# Altium schematic symbol library Sensor_Optical.SchLib: 75 symbols
Pins are listed as number, name and electrical type; pins without a type are passive.

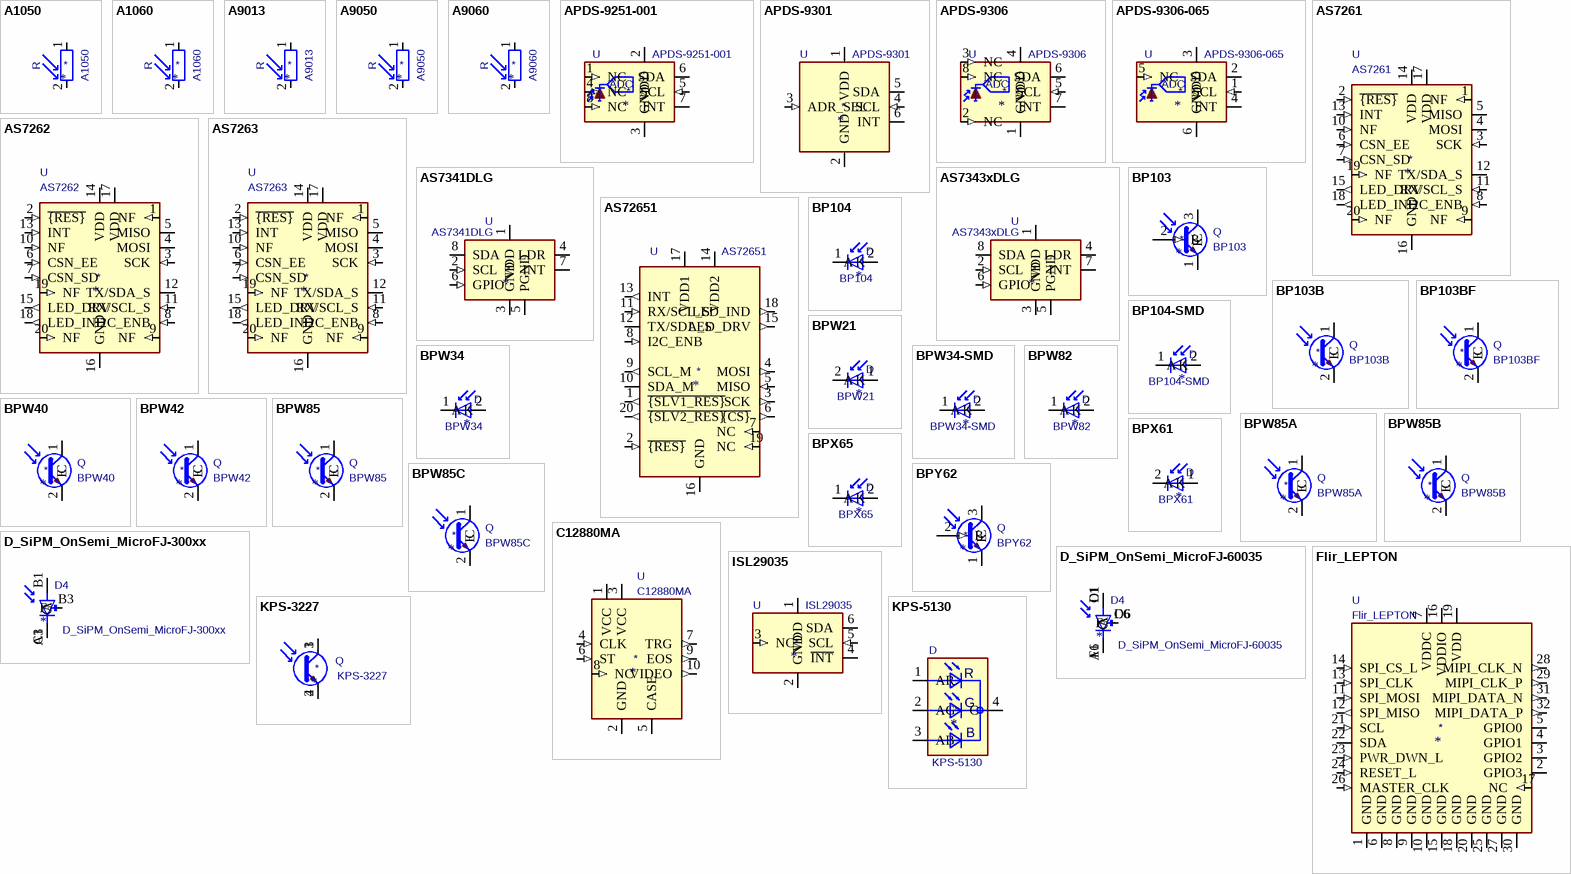
[diagram p0: symbols A1050 to KPS-5130]

## A1050
designator *  value A1050  Reference: R
light dependent resistor; ki_keywords: light dependent photo resistor LDR; ki_fp_filters: R*LDR*D6.4*P3.4*; Footprint: OptoDevice:R_LDR_D6.4mm_P3.4mm_Vertical; Datasheet: http://cdn-reichelt.de/documents/datenblatt/A500/A106012.pdf; Description_: light dependent resistor
pins: 1, 2

## A1060
designator *  value A1060  Reference: R
light dependent resistor; ki_keywords: light dependent photo resistor LDR; ki_fp_filters: R*LDR*D6.4*P3.4*; Footprint: OptoDevice:R_LDR_D6.4mm_P3.4mm_Vertical; Datasheet: http://cdn-reichelt.de/documents/datenblatt/A500/A106012.pdf; Description_: light dependent resistor
pins: 1, 2

## A9013
designator *  value A9013  Reference: R
light dependent resistor; ki_keywords: light dependent photo resistor LDR; ki_fp_filters: R*LDR*5.0x4.1mm*P3mm*; Footprint: OptoDevice:R_LDR_5.0x4.1mm_P3mm_Vertical; Datasheet: http://www.produktinfo.conrad.com/datenblaetter/125000-149999/145475-da-01-en-FOTOWIDERSTAND_A_9060_A_9013.pdf; Description_: light dependent resistor
pins: 1, 2

## A9050
designator *  value A9050  Reference: R
light dependent resistor; ki_keywords: light dependent photo resistor LDR; ki_fp_filters: R*LDR*5.0x4.1mm*P3mm*; Footprint: OptoDevice:R_LDR_5.0x4.1mm_P3mm_Vertical; Datasheet: http://cdn-reichelt.de/documents/datenblatt/A500/A90xxxx%23PE.pdf; Description_: light dependent resistor
pins: 1, 2

## A9060
designator *  value A9060  Reference: R
light dependent resistor; ki_keywords: light dependent photo resistor LDR; ki_fp_filters: R*LDR*5.0x4.1mm*P3mm*; Footprint: OptoDevice:R_LDR_5.0x4.1mm_P3mm_Vertical; Datasheet: http://cdn-reichelt.de/documents/datenblatt/A500/A90xxxx%23PE.pdf; Description_: light dependent resistor
pins: 1, 2

## APDS-9251-001
designator *  value APDS-9251-001  Reference: U
Digital RGB, IR, and Ambient Light Sensor, 1.7-3.6V, LGA-8; ki_keywords: opto ambient light sensor; ki_fp_filters: Broadcom*LGA*2x2mm*P0.5mm*; Footprint: OptoDevice:Broadcom_LGA-8_2x2mm_P0.5mm; Datasheet: https://docs.broadcom.com/doc/APDS-9251-001-DS; Description_: Digital RGB, IR, and Ambient Light Sensor, 1.7-3.6V, LGA-8
pins: 1 NC (in), 2 VDD (power), 3 GND (power), 4 NC (in), 5 SCL (in), 6 SDA (io), 7 INT (oc), 8 NC (in)
text: ADC

## APDS-9301
designator *  value APDS-9301  Reference: U
ambient light sensor, i2c interface, 2.7-3.6V; ki_keywords: ambient light sensor i2c; ki_fp_filters: Broadcom*APDS*9301*; Footprint: OptoDevice:Broadcom_APDS-9301; Datasheet: https://docs.broadcom.com/docs/AV02-2315EN; Description_: ambient light sensor, i2c interface, 2.7-3.6V
pins: 1 VDD (power), 2 GND (power), 3 ADR_SEL (in), 4 SCL (in), 5 SDA (io), 6 INT (oc)

## APDS-9306
designator *  value APDS-9306  Reference: U
Ambient Light Sensor, I2C interface, 1.7-3.6V, LGA-8; ki_keywords: opto ambient light sensor; ki_fp_filters: Broadcom*LGA*2x2mm*P0.53mm*; Footprint: OptoDevice:Broadcom_LGA-8_2x2mm_P0.53mm; Datasheet: https://docs.broadcom.com/docs/AV02-4755EN; Description_: Ambient Light Sensor, I2C interface, 1.7-3.6V, LGA-8
pins: 1 GND (power), 2 NC (in), 3 NC (in), 4 VDD (power), 5 SCL (in), 6 SDA (io), 7 INT (oc), 8 NC (in)
text: ADC

## APDS-9306-065
designator *  value APDS-9306-065  Reference: U
Ambient Light Sensor, I2C interface, 1.7-3.6V, DFN-6; ki_keywords: opto ambient light sensor; ki_fp_filters: Broadcom*DFN*2x2mm*P0.65mm*; Footprint: OptoDevice:Broadcom_DFN-6_2x2mm_P0.65mm; Datasheet: https://docs.broadcom.com/docs/AV02-4755EN; Description_: Ambient Light Sensor, I2C interface, 1.7-3.6V, DFN-6
pins: 1 SCL (in), 2 SDA (io), 3 VDD (power), 4 INT (oc), 5 NC (in), 6 GND (power)
text: ADC

## AS7261
designator *  value AS7261  Reference: U
Spectral Sensing Engine, 6-Channel XYZ Spectral_ID; ki_keywords: 6-Channel XYZ Spectral_ID Device Electronic Shutter Smart Interface i2c uart; ki_fp_filters: AMS?LGA*4.7x4.5mm*P0.65mm*; Footprint: Package_LGA:AMS_LGA-20_4.7x4.5mm_P0.65mm; Datasheet: https://ams.com/documents/20143/36005/AS7261_DS000493_1-00.pdf/0e7d1f12-702e-d061-b07a-67b0b6316800; Description_: Spectral Sensing Engine, 6-Channel XYZ Spectral_ID
pins: 1 NF (in), 2 ~{{RES}} (in), 3 SCK (in), 4 MOSI (io), 5 MISO (io), 6 CSN_EE (in), 7 CSN_SD (in), 8 I2C_ENB (in), 9 NF (in), 10 NF (in), 11 RX/SCL_S (in), 12 TX/SDA_S (io), 13 INT (in), 14 VDD (power), 15 LED_DRV (out), 16 GND (power), 17 VDD (power), 18 LED_IND (out), 19 NF (in), 20 NF (in)

## AS7262
designator *  value AS7262  Reference: U
Spectral Sensing Engine, 6-Channel Visible Spectral_ID; ki_keywords: 6-Channel Visible Spectral_ID Device Electronic Shutter Smart Interface i2c uart; ki_fp_filters: AMS?LGA*4.7x4.5mm*P0.65mm*; Footprint: Package_LGA:AMS_LGA-20_4.7x4.5mm_P0.65mm; Datasheet: https://ams.com/documents/20143/36005/AS7262_DS000486_5-00.pdf; Description_: Spectral Sensing Engine, 6-Channel Visible Spectral_ID
pins: 1 NF (in), 2 ~{{RES}} (in), 3 SCK (in), 4 MOSI (io), 5 MISO (io), 6 CSN_EE (in), 7 CSN_SD (in), 8 I2C_ENB (in), 9 NF (in), 10 NF (in), 11 RX/SCL_S (in), 12 TX/SDA_S (io), 13 INT (in), 14 VDD (power), 15 LED_DRV (out), 16 GND (power), 17 VDD (power), 18 LED_IND (out), 19 NF (in), 20 NF (in)

## AS7263
designator *  value AS7263  Reference: U
Spectral Sensing Engine, 6-Channel NIR Spectral_ID; ki_keywords: 6-Channel NIR Spectral_ID Device Electronic Shutter Smart Interface i2c uart; ki_fp_filters: AMS?LGA*4.7x4.5mm*P0.65mm*; Footprint: Package_LGA:AMS_LGA-20_4.7x4.5mm_P0.65mm; Datasheet: https://ams.com/documents/20143/36005/AS7263_DS000476_4-00.pdf; Description_: Spectral Sensing Engine, 6-Channel NIR Spectral_ID
pins: 1 NF (in), 2 ~{{RES}} (in), 3 SCK (in), 4 MOSI (io), 5 MISO (io), 6 CSN_EE (in), 7 CSN_SD (in), 8 I2C_ENB (in), 9 NF (in), 10 NF (in), 11 RX/SCL_S (in), 12 TX/SDA_S (io), 13 INT (in), 14 VDD (power), 15 LED_DRV (out), 16 GND (power), 17 VDD (power), 18 LED_IND (out), 19 NF (in), 20 NF (in)

## AS7341DLG
designator *  value AS7341DLG  Reference: U
11-Channel Multi-Spectral Digital Sensor, OLGA-8; ki_keywords: 11-Channel Spectral i2c optical color; ki_fp_filters: AMS*OLGA*2x3.1mm*P0.8mm*; Footprint: Package_LGA:AMS_OLGA-8_2x3.1mm_P0.8mm; Datasheet: https://ams.com/documents/20143/36005/AS7341_DS000504_3-00.pdf; Description_: 11-Channel Multi-Spectral Digital Sensor, OLGA-8
pins: 1 VDD (power), 2 SCL (in), 3 GND (power), 4 LDR, 5 PGND (power), 6 GPIO (in), 7 INT (oc), 8 SDA (io)

## AS7343xDLG
designator *  value AS7343xDLG  Reference: U
14-Channel Multi-Spectral Digital Sensor including XYZ, Clear and Flicker Detection, 380 - 1000 nm,OLGA-8; ki_keywords: 14-Channel Spectral i2c optical color; ki_fp_filters: AMS*OLGA*2x3.1mm*P0.8mm*; Footprint: Package_LGA:AMS_OLGA-8_2x3.1mm_P0.8mm; Datasheet: https://ams.com/documents/20143/6705498/AS7343_DS001046_6_00.pdf; Description_: 14-Channel Multi-Spectral Digital Sensor including XYZ, Clear and Flicker Detection, 380 - 1000 nm,OLGA-8
pins: 1 VDD (power), 2 SCL (in), 3 GND (power), 4 LDR, 5 PGND (power), 6 GPIO (in), 7 INT (oc), 8 SDA (io)

## AS72651
designator *  value AS72651  Reference: U
Smart 18-Channel VIS+NIR Spectral_ID Sensor with Electronic Shutter, LGA-20; ki_keywords: Smart Spectral Sensor; ki_fp_filters: AMS?LGA*4.7x4.5mm*P0.65mm*; Footprint: Package_LGA:AMS_LGA-20_4.7x4.5mm_P0.65mm; Datasheet: https://ams.com/documents/20143/36005/AS7265x_DS000612_1-00.pdf/08051c8a-a7f6-6231-7993-2d3fe0bf38b8; Description_: Smart 18-Channel VIS+NIR Spectral_ID Sensor with Electronic Shutter, LGA-20
pins: 1 ~{{SLV1_RES}} (out), 2 ~{{RES}} (in), 3 SCK (out), 4 MOSI (out), 5 MISO (in), 6 ~{{CS}} (out), 7 NC (in), 8 I2C_ENB (in), 9 SCL_M (out), 10 SDA_M (io), 11 RX/SCL_S (in), 12 TX/SDA_S (io), 13 INT (out), 14 VDD2 (power), 15 LED_DRV (out), 16 GND (power), 17 VDD1 (power), 18 LED_IND (out), 19 NC (in), 20 ~{{SLV2_RES}} (out)

## BP103
designator *  value BP103  Reference: Q
NPN Phototransistor; ki_fp_filters: TO?18*Lens*; Footprint: Package_TO_SOT_THT:TO-18-3_Lens; Datasheet: http://www.osram-os.com/Graphics/XPic3/00101777_0.pdf/BP; Description_: NPN Phototransistor; ki_keywords: npn phototransistor
pins: 1 E, 2 B (in), 3 C

## BP103B
designator *  value BP103B  Reference: Q
NPN phototransistor; ki_fp_filters: LED*D5.0mm*Clear*; Footprint: LED_THT:LED_D5.0mm_Clear; Datasheet: http://www.b-kainka.de/Daten/Sensor/bp103bf.pdf; Description_: NPN phototransistor; ki_keywords: NPN phototransistor
pins: 1 C, 2 E

## BP103BF
designator *  value BP103BF  Reference: Q
NPN phototransistor with daylight filter; ki_keywords: IR NPN phototransistor; ki_fp_filters: LED*D5.0mm*Clear*; Footprint: LED_THT:LED_D5.0mm_Clear; Datasheet: http://www.b-kainka.de/Daten/Sensor/bp103bf.pdf; Description_: NPN phototransistor with daylight filter
pins: 1 C, 2 E

## BP104
designator *  value BP104  Reference: D
Silicon PIN Photodiode; ki_keywords: opto PIN photodiode; ki_fp_filters: Osram*DIL2*4.3x4.65mm*P5.08*; Footprint: OptoDevice:Osram_DIL2_4.3x4.65mm_P5.08mm; Datasheet: http://www.vishay.com/docs/81500/81500.pdf; Description_: Silicon PIN Photodiode
pins: 1 K, 2 A

## BP104-SMD
designator *  value BP104-SMD  Reference: D
Silicon PIN Photodiode,  Area 2.2x2.2mm; ki_keywords: opto photodiode; ki_fp_filters: Osram*BP104*; Footprint: OptoDevice:Osram_BP104-SMD; Datasheet: https://dammedia.osram.info/media/resource/hires/osram-dam-5989350/BP%20104%20FAS_EN.pdf; Description_: Silicon PIN Photodiode,  Area 2.2x2.2mm
pins: 1 K, 2 A

## BPW21
designator *  value BPW21  Reference: D
Silicon Photodiode for the visible spectral range, TO-5 package; ki_keywords: opto photodiode; ki_fp_filters: TO?5*Window*; Footprint: Package_TO_SOT_THT:TO-5-2_Window; Datasheet: http://techwww.in.tu-clausthal.de/site/Dokumentation/Dioden/Fotodioden/BPW21-Fotodiode.pdf; Description_: Silicon Photodiode for the visible spectral range, TO-5 package
pins: 1 A, 2 K

## BPW34
designator *  value BPW34  Reference: D
Silicon PIN Photodiode; ki_keywords: opto PIN photodiode; ki_fp_filters: Osram*DIL2*4.3x4.65mm*P5.08*; Footprint: OptoDevice:Osram_DIL2_4.3x4.65mm_P5.08mm; Datasheet: http://www.vishay.com/docs/81521/bpw34.pdf; Description_: Silicon PIN Photodiode
pins: 1 K, 2 A

## BPW34-SMD
designator *  value BPW34-SMD  Reference: D
Silicon PIN Photodiode, Area 2.65x2.65mm; ki_keywords: opto photodiode; ki_fp_filters: Osram*BPW34S*; Footprint: OptoDevice:Osram_BPW34S-SMD; Datasheet: https://dammedia.osram.info/media/resource/hires/osram-dam-5488319/BPW%2034%20S_EN.pdf; Description_: Silicon PIN Photodiode, Area 2.65x2.65mm
pins: 1 K, 2 A

## BPW40
designator *  value BPW40  Reference: Q
Phototransistor NPN; ki_keywords: npn phototransistor; ki_fp_filters: LED*D5.0mm*Clear*; Footprint: LED_THT:LED_D5.0mm_Clear; Datasheet: https://www.rcscomponents.kiev.ua/datasheets/bpw40.pdf; Description_: Phototransistor NPN
pins: 1 C, 2 E

## BPW42
designator *  value BPW42  Reference: Q
NPN phototransistor; ki_keywords: NPN phototransistor opto; ki_fp_filters: LED*3.0mm*Clear*; Footprint: LED_THT:LED_D3.0mm_Clear; Datasheet: http://www.ges.cz/sheets/b/bpw42.pdf; Description_: NPN phototransistor
pins: 1 C, 2 E

## BPW82
designator *  value BPW82  Reference: D
Silicon PIN Photodiode with Daylight Blocking Filter; ki_keywords: opto photo diode; ki_fp_filters: Osram*BPW82*; Footprint: OptoDevice:Osram_BPW82; Datasheet: http://www.vishay.com/docs/81529/bpw82.pdf; Description_: Silicon PIN Photodiode with Daylight Blocking Filter
pins: 1 K, 2 A

## BPW85
designator *  value BPW85  Reference: Q
Silicon NPN Phototransistor, Ica = 0.8-8mA, T-1; ki_fp_filters: LED*3.0mm*Clear*; Footprint: LED_THT:LED_D3.0mm_Clear; Datasheet: https://www.vishay.com/docs/81531/bpw85a.pdf; Description_: Silicon NPN Phototransistor, Ica = 0.8-8mA, T-1; ki_keywords: npn phototransistor
pins: 1 C, 2 E

## BPW85A
designator *  value BPW85A  Reference: Q
Silicon NPN Phototransistor, Ica = 0.8-2.5mA, T-1; ki_fp_filters: LED*3.0mm*Clear*; Footprint: LED_THT:LED_D3.0mm_Clear; Datasheet: https://www.vishay.com/docs/81531/bpw85a.pdf; Description_: Silicon NPN Phototransistor, Ica = 0.8-2.5mA, T-1; ki_keywords: npn phototransistor
pins: 1 C, 2 E

## BPW85B
designator *  value BPW85B  Reference: Q
Silicon NPN Phototransistor, Ica = 1.5-4mA, T-1; ki_fp_filters: LED*3.0mm*Clear*; Footprint: LED_THT:LED_D3.0mm_Clear; Datasheet: https://www.vishay.com/docs/81531/bpw85a.pdf; Description_: Silicon NPN Phototransistor, Ica = 1.5-4mA, T-1; ki_keywords: npn phototransistor
pins: 1 C, 2 E

## BPW85C
designator *  value BPW85C  Reference: Q
Silicon NPN Phototransistor, Ica = 3-8mA, T-1; ki_fp_filters: LED*3.0mm*Clear*; Footprint: LED_THT:LED_D3.0mm_Clear; Datasheet: https://www.vishay.com/docs/81531/bpw85a.pdf; Description_: Silicon NPN Phototransistor, Ica = 3-8mA, T-1; ki_keywords: npn phototransistor
pins: 1 C, 2 E

## BPX61
designator *  value BPX61  Reference: D
Silicon Photodiode for the visible spectral range; ki_keywords: photodiode opto; ki_fp_filters: TO?5*Window*; Footprint: Package_TO_SOT_THT:TO-5-2_Window; Datasheet: http://www.osram-os.com/Graphics/XPic3/00101650_0.pdf; Description_: Silicon Photodiode for the visible spectral range
pins: 1 A, 2 K

## BPX65
designator *  value BPX65  Reference: D
Silicon PIN Photodiode, TO-18 package; ki_keywords: opto PIN photo diode; ki_fp_filters: TO?18*Lens*; Footprint: Package_TO_SOT_THT:TO-18-2_Lens; Datasheet: http://www.osram-os.com/Graphics/XPic1/00181579_0.pdf/BPX%2065,%20Lead%20(Pb)%20Free%20Product%20-%20RoHS%20Compliant.pdf; Description_: Silicon PIN Photodiode, TO-18 package
pins: 1 K, 2 A

## BPY62
designator *  value BPY62  Reference: Q
NPN Phototransistor; ki_keywords: NPN Phototransistor opto; ki_fp_filters: TO?18*Lens*; Footprint: Package_TO_SOT_THT:TO-18-3_Lens; Datasheet: http://www.osram-os.com/Graphics/XPic9/00208595_0.pdf; Description_: NPN Phototransistor
pins: 1 E, 2 B (in), 3 C

## C12880MA
designator *  value C12880MA  Reference: U
Micro spectrometer 340 to 850nm resolution 15nm; ki_fp_filters: Hamamatsu*C12880*; Footprint: OptoDevice:Hamamatsu_C12880; Datasheet: http://www.hamamatsu.com/resources/pdf/ssd/c12880ma_kacc1226e.pdf; Description_: Micro spectrometer 340 to 850nm resolution 15nm; ki_keywords: spectrometer
pins: 1 VCC (power), 2 GND (power), 3 VCC (power), 4 CLK (in), 5 CASE, 6 ST (in), 7 TRG (out), 8 NC (in), 9 EOS (out), 10 VIDEO (out)

## D_SiPM_OnSemi_MicroFJ-300xx
designator *  value D_SiPM_OnSemi_MicroFJ-300xx  Reference: D4
SiPM, OnSemi J-Series 3x3mm with fast output, 20/35um microcell size, 24.2..24.7Vbr, ODCSP-8; ki_keywords: SiPM MPPC SPAD photon counting; ki_fp_filters: *BGA*3.16x3.16mm*Layout3x3*P1.26mm*; Footprint: Package_CSP:OnSemi_ODCSP8_BGA-8_3.16x3.16mm_Layout3x3_P1.26mm; Datasheet: https://www.onsemi.com/pdf/datasheet/microj-series-d.pdf; Description_: SiPM, OnSemi J-Series 3x3mm with fast output, 20/35um microcell size, 24.2..24.7Vbr, ODCSP-8
pins: A1 C, B1 A, B3 F, C3 C

## D_SiPM_OnSemi_MicroFJ-60035
designator *  value D_SiPM_OnSemi_MicroFJ-60035  Reference: D4
SiPM, OnSemi J-Series 6x6mm with fast output, 35um microcell size, 24.1..24.7Vbr, ODCSP36; ki_keywords: SiPM MPPC SPAD photon counting; ki_fp_filters: *BGA*6.13x6.13mm*Layout6x6*P1.0mm*; Footprint: Package_CSP:OnSemi_ODCSP36_BGA-36_6.13x6.13mm_Layout6x6_P1.0mm; Datasheet: https://www.onsemi.com/pdf/datasheet/microj-series-d.pdf; Description_: SiPM, OnSemi J-Series 6x6mm with fast output, 35um microcell size, 24.1..24.7Vbr, ODCSP36
pins: A1 C, C1 A, C6 F, D1 A, D6 F, F6 C

## Flir_LEPTON
designator *  value Flir_LEPTON  Reference: U
LWIR camera 8 to 14um 80x60 pixel; ki_fp_filters: *105028*1001* *105028*2011*; Datasheet: https://cdn.sparkfun.com/datasheets/Sensors/Infrared/FLIR_Lepton_Data_Brief.pdf; Description_: LWIR camera 8 to 14um 80x60 pixel; ki_keywords: LWIR camera
pins: 1 GND (power), 2 GPIO3 (io), 3 GPIO2 (io), 4 GPIO1 (io), 5 GPIO0 (io), 6 GND (power), 7 VDDC (power), 8 GND (power), 9 GND (power), 10 GND (power), 11 SPI_MOSI (in), 12 SPI_MISO (out), 13 SPI_CLK (in), 14 SPI_CS_L (in), 15 GND (power), 16 VDDIO (power), 17 NC (in), 18 GND (power), 19 VDD (power), 20 GND (power), 21 SCL (in), 22 SDA (io), 23 PWR_DWN_L (in), 24 RESET_L (in), 25 GND (power), 26 MASTER_CLK (in), 27 GND (power), 28 MIPI_CLK_N (out), 29 MIPI_CLK_P (out), 30 GND (power), 31 MIPI_DATA_N (out), 32 MIPI_DATA_P (out)

## ISL29035
designator *  value ISL29035  Reference: U
ambient light sensor, i2c interface, 2.25-3.63V, DFN-6; ki_keywords: ambient light sensor i2c; ki_fp_filters: Renesas*DFN*1.5x1.6mm*P0.5mm*; Footprint: OptoDevice:Renesas_DFN-6_1.5x1.6mm_P0.5mm; Datasheet: https://www.renesas.com/us/en/document/dst/isl29035-datasheet; Description_: ambient light sensor, i2c interface, 2.25-3.63V, DFN-6
pins: 1 VDD (power), 2 GND (power), 3 NC (in), 4 ~{INT} (oc), 5 SCL (in), 6 SDA (io)

## KPS-3227
designator *  value KPS-3227  Reference: Q
Ambient light NPN phototransistor, KPS-3227; ki_keywords: Kingbright npn phototransistor ambient light photo sensor; ki_fp_filters: Kingbright*KPS?3227*; Footprint: OptoDevice:Kingbright_KPS-3227; Datasheet: https://www.kingbright.com/attachments/file/psearch/000/00/00/KPS-3227SP1C(Ver.16).pdf; Description_: Ambient light NPN phototransistor, KPS-3227
pins: 1, 2, 3, 4

## KPS-5130
designator *  value KPS-5130  Reference: D
RGB Colour Sensor, KPS-5130; ki_keywords: opto photodiode RGB colour sensor; ki_fp_filters: Kingbright*KPS?5130*; Footprint: OptoDevice:Kingbright_KPS-5130; Datasheet: https://www.kingbright.com/attachments/file/psearch/000/00/20160808bak/KPS-5130PD7C(Ver.13).pdf; Description_: RGB Colour Sensor, KPS-5130
pins: 1 AR, 2 AG, 3 AB, 4 C
text: R; G; B

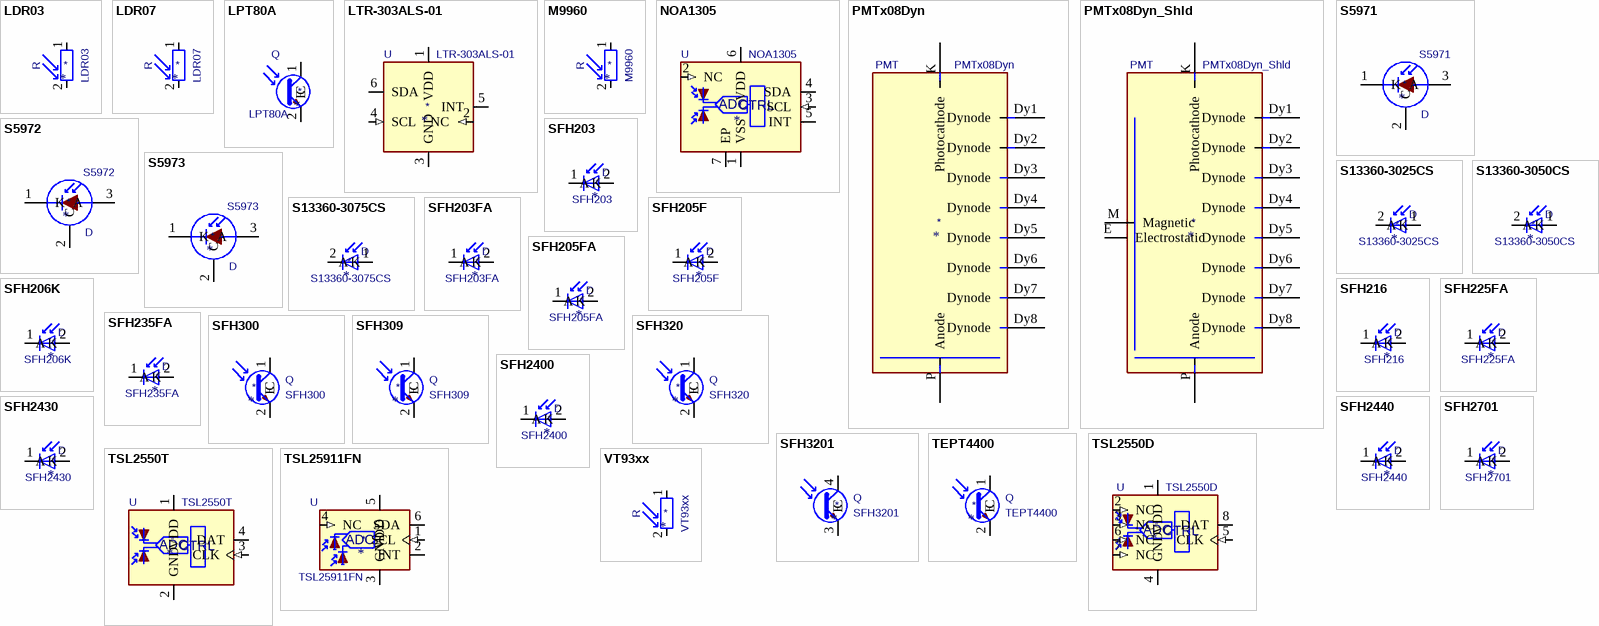
[diagram p1: symbols LDR03 to VT93xx]

## LDR03
designator *  value LDR03  Reference: R
light dependent resistor; ki_keywords: light dependent photo resistor LDR; ki_fp_filters: R*LDR*10x8.5mm*P7.6mm*; Footprint: OptoDevice:R_LDR_10x8.5mm_P7.6mm_Vertical; Datasheet: http://www.elektronica-componenten.nl/WebRoot/StoreNL/Shops/61422969/54F1/BA0C/C664/31B9/2173/C0A8/2AB9/2AEF/LDR03IMP.pdf; Description_: light dependent resistor
pins: 1, 2

## LDR07
designator *  value LDR07  Reference: R
light dependent resistor; ki_keywords: light dependent photo resistor LDR; ki_fp_filters: R*LDR*5.1x4.3mm*P3.4mm*; Footprint: OptoDevice:R_LDR_5.1x4.3mm_P3.4mm_Vertical; Datasheet: http://www.tme.eu/de/Document/f2e3ad76a925811312d226c31da4cd7e/LDR07.pdf; Description_: light dependent resistor
pins: 1, 2

## LPT80A
designator *  value LPT80A  Reference: Q
NPN phototransistor; ki_fp_filters: Osram*LPT80A*; Footprint: OptoDevice:Osram_LPT80A; Datasheet: http://www.osram-os.com/Graphics/XPic4/00209607_0.pdf/LPT%2080A.pdf; Description_: NPN phototransistor; ki_keywords: NPN phototransistor
pins: 1 C, 2 E

## LTR-303ALS-01
designator *  value LTR-303ALS-01  Reference: U
ambient light sensor, i2c interface, 0.01 to 64k lux, 2.4-3.6V; ki_keywords: ambient light sensor i2c; ki_fp_filters: Lite*On*LTR*303ALS*01*; Footprint: OptoDevice:Lite-On_LTR-303ALS-01; Datasheet: https://optoelectronics.liteon.com/upload/download/DS86-2013-0004/LTR-303ALS-01_DS_V1.pdf; Description_: ambient light sensor, i2c interface, 0.01 to 64k lux, 2.4-3.6V
pins: 1 VDD (power), 2 NC (in), 3 GND (power), 4 SCL (in), 5 INT (oc), 6 SDA (io)

## M9960
designator *  value M9960  Reference: R
light dependent resistor; ki_keywords: light dependent photo resistor LDR; ki_fp_filters: R*LDR*5.2x5.2mm*P3.5mm*; Footprint: OptoDevice:R_LDR_5.2x5.2mm_P3.5mm_Horizontal; Datasheet: http://cdn-reichelt.de/documents/datenblatt/A500/M996011a_b.pdf; Description_: light dependent resistor
pins: 1, 2

## NOA1305
designator *  value NOA1305  Reference: U
Ambient Light Sensor with I2C Interface and Dark Current Compensation; ki_keywords: opto ambient light sensor; ki_fp_filters: DFN*6*P0.65mm*; Footprint: Package_DFN_QFN:DFN-6-1EP_2x2mm_P0.65mm_EP1x1.6mm; Datasheet: http://www.onsemi.com/pub/Collateral/NOA1305-D.PDF; Description_: Ambient Light Sensor with I2C Interface and Dark Current Compensation
pins: 1 VSS (power), 2 NC (in), 3 SCL (in), 4 SDA (io), 5 INT (oc), 6 VDD (power), 7 EP
text: ADC; CTRL

## PMTx08Dyn
designator *  value PMTx08Dyn  Reference: PMT
8-stage photomultiplier tube; ki_keywords: PMT 8-stage; ki_fp_filters: PMT*; Datasheet: ~; Description_: 8-stage photomultiplier tube
pins: Dy1 Dynode, Dy2 Dynode, Dy3 Dynode, Dy4 Dynode, Dy5 Dynode, Dy6 Dynode, Dy7 Dynode, Dy8 Dynode, K Photocathode, P Anode

## PMTx08Dyn_Shld
designator *  value PMTx08Dyn_Shld  Reference: PMT
8-stage photomultiplier tube with electrostatic and magnetic shield; ki_keywords: PMT 8-stage; ki_fp_filters: PMT*; Datasheet: ~; Description_: 8-stage photomultiplier tube with electrostatic and magnetic shield
pins: Dy1 Dynode, Dy2 Dynode, Dy3 Dynode, Dy4 Dynode, Dy5 Dynode, Dy6 Dynode, Dy7 Dynode, Dy8 Dynode, E Electrostatic, K Photocathode, M Magnetic, P Anode

## S5971
designator *  value S5971  Reference: D
Si PIN Photodiode, 0.1 GHz, TO-18-3; ki_keywords: opto photodiode; ki_fp_filters: TO?18*; Footprint: Package_TO_SOT_THT:TO-18-3; Datasheet: https://www.hamamatsu.com/resources/pdf/ssd/s5971_etc_kpin1025e.pdf; Description_: Si PIN Photodiode, 0.1 GHz, TO-18-3
pins: 1 K, 2 C, 3 A

## S5972
designator *  value S5972  Reference: D
Si PIN Photodiode, 0.5 GHz, TO-18-3; ki_keywords: opto photodiode; ki_fp_filters: TO?18*; Footprint: Package_TO_SOT_THT:TO-18-3; Datasheet: https://www.hamamatsu.com/resources/pdf/ssd/s5971_etc_kpin1025e.pdf; Description_: Si PIN Photodiode, 0.5 GHz, TO-18-3
pins: 1 K, 2 C, 3 A

## S5973
designator *  value S5973  Reference: D
Si PIN Photodiode, 1 GHz, TO-18-3; ki_keywords: opto photodiode; ki_fp_filters: TO?18*; Footprint: Package_TO_SOT_THT:TO-18-3; Datasheet: https://www.hamamatsu.com/resources/pdf/ssd/s5971_etc_kpin1025e.pdf; Description_: Si PIN Photodiode, 1 GHz, TO-18-3
pins: 1 K, 2 C, 3 A

## S13360-3025CS
designator *  value S13360-3025CS  Reference: D
Multi-Pixel Photon Counter with 25µm pixel pitch; ki_keywords: opto SiPM MPPC hamamatsu SPAD; ki_fp_filters: Hamamatsu*S13360*30CS*; Footprint: OptoDevice:Hamamatsu_S13360-30CS; Datasheet: http://www.hamamatsu.com/resources/pdf/ssd/s13360_series_kapd1052e.pdf; Description_: Multi-Pixel Photon Counter with 25µm pixel pitch
pins: 1 A, 2 K

## S13360-3050CS
designator *  value S13360-3050CS  Reference: D
Multi-Pixel Photon Counter with 50µm pixel pitch; ki_keywords: opto SiPM MPPC hamamatsu SPAD; ki_fp_filters: Hamamatsu*S13360*30CS*; Footprint: OptoDevice:Hamamatsu_S13360-30CS; Datasheet: http://www.hamamatsu.com/resources/pdf/ssd/s13360_series_kapd1052e.pdf; Description_: Multi-Pixel Photon Counter with 50µm pixel pitch
pins: 1 A, 2 K

## S13360-3075CS
designator *  value S13360-3075CS  Reference: D
Multi-Pixel Photon Counter with 75µm pixel pitch; ki_keywords: opto SiPM MPPC hamamatsu SPAD; ki_fp_filters: Hamamatsu*S13360*30CS*; Footprint: OptoDevice:Hamamatsu_S13360-30CS; Datasheet: http://www.hamamatsu.com/resources/pdf/ssd/s13360_series_kapd1052e.pdf; Description_: Multi-Pixel Photon Counter with 75µm pixel pitch
pins: 1 A, 2 K

## SFH203
designator *  value SFH203  Reference: D
Silicon PIN Photodiode; ki_keywords: opto PIN photodiode; ki_fp_filters: LED*D5.0mm*IRGrey*; Footprint: LED_THT:LED_D5.0mm_IRGrey; Datasheet: http://www.osram-os.com/Graphics/XPic9/00101656_0.pdf/SFH%20203,%20SFH%20203%20FA,%20Lead%20(Pb)%20Free%20Product%20-%20RoHS%20Compliant.pdf; Description_: Silicon PIN Photodiode
pins: 1 K, 2 A

## SFH203FA
designator *  value SFH203FA  Reference: D
Silicon PIN Photodiode with Daylight Blocking Filter; ki_keywords: PIN photodiode IR; ki_fp_filters: LED*D5.0mm*IRGrey*; Footprint: LED_THT:LED_D5.0mm_IRGrey; Datasheet: http://www.osram-os.com/Graphics/XPic9/00101656_0.pdf/SFH%20203,%20SFH%20203%20FA,%20Lead%20(Pb)%20Free%20Product%20-%20RoHS%20Compliant.pdf; Description_: Silicon PIN Photodiode with Daylight Blocking Filter
pins: 1 K, 2 A

## SFH205F
designator *  value SFH205F  Reference: D
Silicon PIN Photodiode with Daylight Blocking Filter; ki_keywords: opto photo diode; ki_fp_filters: Osram*SFH205*; Footprint: OptoDevice:Osram_SFH205; Datasheet: http://www.osram-os.com/Graphics/XPic2/00101668_0.pdf; Description_: Silicon PIN Photodiode with Daylight Blocking Filter
pins: 1 K, 2 A

## SFH205FA
designator *  value SFH205FA  Reference: D
Silicon PIN Photodiode with Daylight Blocking Filter; ki_fp_filters: Osram*SFH205*; Footprint: OptoDevice:Osram_SFH205; Datasheet: http://www.osram-os.com/Graphics/XPic9/00101665_0.pdf; Description_: Silicon PIN Photodiode with Daylight Blocking Filter; ki_keywords: PIN Photodiode
pins: 1 K, 2 A

## SFH206K
designator *  value SFH206K  Reference: D
Silicon PIN Photodiode; ki_keywords: opto PIN photodiode; ki_fp_filters: Osram*SFH205*; Footprint: OptoDevice:Osram_SFH205; Datasheet: http://www.osram-os.com/Graphics/XPic0/00211439_0.pdf/SFH%20206%20K.pdf; Description_: Silicon PIN Photodiode
pins: 1 K, 2 A

## SFH216
designator *  value SFH216  Reference: D
Silicon PIN Photodiode With Very Short Switching Time, TO-18 package; ki_keywords: opto PIN photo diode; ki_fp_filters: TO?18*Window*; Footprint: Package_TO_SOT_THT:TO-18-2_Window; Datasheet: http://www.osram-os.com/Graphics/XPic1/00029253_0.pdf/SFH; Description_: Silicon PIN Photodiode With Very Short Switching Time, TO-18 package
pins: 1 K, 2 A

## SFH225FA
designator *  value SFH225FA  Reference: D
Silicon PIN Photodiode with Daylight Blocking Filter; ki_keywords: opto PIN photodiode IR; ki_fp_filters: Osram*SFH225*; Footprint: OptoDevice:Osram_SFH225; Datasheet: http://www.osram-os.com/Graphics/XPic0/00209685_0.pdf/SFH%20225%20FA.pdf; Description_: Silicon PIN Photodiode with Daylight Blocking Filter
pins: 1 K, 2 A

## SFH235FA
designator *  value SFH235FA  Reference: D
Silicon PIN Photodiode with Daylight Blocking Filter; ki_keywords: opto PIN photodiode IR; ki_fp_filters: Osram*SFH225*; Footprint: OptoDevice:Osram_SFH225; Datasheet: http://www.osram-os.com/Graphics/XPic3/00211469_0.pdf/SFH%20235%20FA.pdf; Description_: Silicon PIN Photodiode with Daylight Blocking Filter
pins: 1 K, 2 A

## SFH300
designator *  value SFH300  Reference: Q
silicon NPN phototransistor; ki_fp_filters: LED*D5.0mm*Clear*; Footprint: LED_THT:LED_D5.0mm_Clear; Datasheet: http://www.osram-os.com/Graphics/XPic2/00101785_0.pdf; Description_: silicon NPN phototransistor; ki_keywords: NPN phototransistor
pins: 1 C, 2 E

## SFH309
designator *  value SFH309  Reference: Q
Phototransistor NPN; ki_keywords: npn phototransistor; ki_fp_filters: LED*3.0mm*Clear*; Footprint: LED_THT:LED_D3.0mm_Clear; Datasheet: http://www.osram-os.com/Graphics/XPic2/00101811_0.pdf/SFH%20309,%20SFH%20309%20FA,%20Lead%20(Pb)%20Free%20Product%20-%20RoHS%20Compliant.pdf; Description_: Phototransistor NPN
pins: 1 C, 2 E

## SFH320
designator *  value SFH320  Reference: Q
Silicon NPN Phototransistor, PLCC-2; ki_fp_filters: LED?SMD:LED?PLCC?2?3.4x3.0mm?KA*; Footprint: LED_SMD:LED_PLCC-2_3.4x3.0mm_KA; Datasheet: https://look.ams-osram.com/m/5397c5d8583a26cf/original/SFH-320.pdf; Description_: Silicon NPN Phototransistor, PLCC-2; ki_keywords: npn phototransistor
pins: 1 C, 2 E

## SFH2400
designator *  value SFH2400  Reference: D
Silicon PIN Photodiode, SMD package; ki_keywords: opto photodiode; ki_fp_filters: Osram*SMD*SmartDIL*; Footprint: OptoDevice:Osram_SMD-SmartDIL; Datasheet: http://www.osram-os.com/Graphics/XPic5/00215665_0.pdf/SFH%202400.pdf; Description_: Silicon PIN Photodiode, SMD package
pins: 1 K, 2 A

## SFH2430
designator *  value SFH2430  Reference: D
Silicon Photodiode, Vf 1.2V, Area 2.65x2.65mm; ki_keywords: opto photodiode; ki_fp_filters: Osram*SFH2430*; Footprint: OptoDevice:Osram_SFH2430; Datasheet: https://dammedia.osram.info/media/resource/hires/osram-dam-5467144/SFH%202430_EN.pdf; Description_: Silicon Photodiode, Vf 1.2V, Area 2.65x2.65mm
pins: 1 K, 2 A

## SFH2440
designator *  value SFH2440  Reference: D
Silicon Photodiode, Vf 1V, Area 2.65x2.65mm; ki_keywords: opto photodiode; ki_fp_filters: Osram*SFH2440*; Footprint: OptoDevice:Osram_SFH2440; Datasheet: https://dammedia.osram.info/media/resource/hires/osram-dam-5467146/SFH%202440_EN.pdf; Description_: Silicon Photodiode, Vf 1V, Area 2.65x2.65mm
pins: 1 K, 2 A

## SFH2701
designator *  value SFH2701  Reference: D
High Speed PIN Photodiode, SMD package; ki_keywords: opto photodiode; ki_fp_filters: LED*1206*; Footprint: LED_SMD:LED_1206_3216Metric_Castellated; Datasheet: http://www.osram-os.com/Graphics/XPic6/00201111_0.pdf/SFH%202701.pdf; Description_: High Speed PIN Photodiode, SMD package
pins: 1 K, 2 A

## SFH3201
designator *  value SFH3201  Reference: Q
Silicon NPN phototransistor, SMD-6; ki_fp_filters: Osram*SFH9x0x*; Footprint: OptoDevice:Osram_SFH9x0x; Datasheet: https://dammedia.osram.info/media/resource/hires/osram-dam-2495980/SFH%203201.pdf; Description_: Silicon NPN phototransistor, SMD-6; ki_keywords: NPN phototransistor
pins: 3 E, 4 C

## TEPT4400
designator *  value TEPT4400  Reference: Q
Ambient Light Sensor, NPN Epitaxial Planar Phototransistor, T-1; ki_keywords: npn phototransistor ambient light sensor; ki_fp_filters: LED*3.0mm*Clear*; Footprint: LED_THT:LED_D3.0mm_Clear; Datasheet: https://www.vishay.com/docs/81341/tept4400.pdf; Description_: Ambient Light Sensor, NPN Epitaxial Planar Phototransistor, T-1
pins: 1 C, 2 E

## TSL2550D
designator *  value TSL2550D  Reference: U
Ambient Light Sensor with SMbus Interface, SO-8 interface; ki_keywords: opto ambient light sensor; ki_fp_filters: SOIC*3.9x4.9mm*P1.27mm*; Footprint: Package_SO:SOIC-8_3.9x4.9mm_P1.27mm; Datasheet: http://ams.com/eng/content/download/250130/975613/142977; Description_: Ambient Light Sensor with SMbus Interface, SO-8 interface
pins: 1 VDD (power), 2 NC (in), 3 NC (in), 4 GND (power), 5 CLK (in), 6 NC (in), 7 NC (in), 8 DAT (io)
text: ADC; CTRL

## TSL2550T
designator *  value TSL2550T  Reference: U
Ambient Light Sensor with SMbus Interface, T-4 interface SMD; ki_keywords: opto ambient light sensor; ki_fp_filters: AMS*TSL2550*SMD*; Footprint: OptoDevice:AMS_TSL2550_SMD; Datasheet: http://ams.com/eng/content/download/250130/975613/142977; Description_: Ambient Light Sensor with SMbus Interface, T-4 interface SMD
pins: 1 VDD (power), 2 GND (power), 3 CLK (in), 4 DAT (io)
text: ADC; CTRL

## TSL25911FN
designator *  value TSL25911FN  Reference: U
Light to digital converter, 2.7 to 3.6V Vdd, DFN-6; ki_keywords: ALS; ki_fp_filters: AMS*TSL25911FN*; Footprint: OptoDevice:AMS_TSL25911FN; Datasheet: https://ams.com/documents/20143/9331680/TSL2591_DS000338_7-00.pdf; Description_: Light to digital converter, 2.7 to 3.6V Vdd, DFN-6
pins: 1 SCL (in), 2 INT (oc), 3 GND (power), 4 NC (in), 5 VDD (power), 6 SDA (io)
text: ADC

## VT93xx
designator *  value VT93xx  Reference: R
light dependent resistor; ki_keywords: light dependent photo resistor LDR; ki_fp_filters: R*LDR*4.9x4.2mm*P2.54mm*; Footprint: OptoDevice:R_LDR_4.9x4.2mm_P2.54mm_Vertical; Datasheet: http://www.produktinfo.conrad.com/datenblaetter/125000-149999/140375-da-01-en-FOTOWIDERSTAND__VT_93_N2__THT_.pdf; Description_: light dependent resistor
pins: 1, 2